# Altium schematic symbol library nfc.SchLib: 4 symbols
Pins are listed as number, name and electrical type; pins without a type are passive.

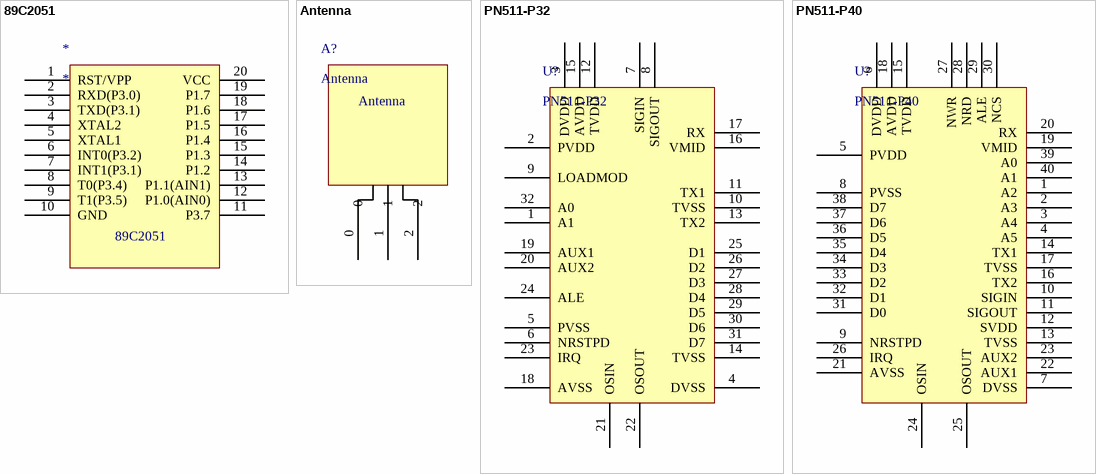
[diagram p0: symbols 89C2051 to PN511-P40]

## 89C2051
designator *
pins: 1 RST/VPP, 2 RXD(P3.0), 3 TXD(P3.1), 4 XTAL2, 5 XTAL1, 6 INT0(P3.2), 7 INT1(P3.1), 8 T0(P3.4), 9 T1(P3.5), 10 GND, 11 P3.7, 12 P1.0(AIN0), 13 P1.1(AIN1), 14 P1.2, 15 P1.3, 16 P1.4, 17 P1.5, 18 P1.6, 19 P1.7, 20 VCC

## Antenna
designator A?
pins: 0, 1, 2

## PN511-P32
designator U?
pins: 1 A1, 2 PVDD, 3 DVDD, 4 DVSS, 5 PVSS, 6 NRSTPD, 7 SIGIN, 8 SIGOUT, 9 LOADMOD, 10 TVSS, 11 TX1, 12 TVDD, 13 TX2, 14 TVSS, 15 AVDD, 16 VMID, 17 RX, 18 AVSS, 19 AUX1, 20 AUX2, 21 OSIN, 22 OSOUT, 23 IRQ, 24 ALE, 25 D1, 26 D2, 27 D3, 28 D4, 29 D5, 30 D6, 31 D7, 32 A0

## PN511-P40
designator U?
pins: 1 A2, 2 A3, 3 A4, 4 A5, 5 PVDD, 6 DVDD, 7 DVSS, 8 PVSS, 9 NRSTPD, 10 SIGIN, 11 SIGOUT, 12 SVDD, 13 TVSS, 14 TX1, 15 TVDD, 16 TX2, 17 TVSS, 18 AVDD, 19 VMID, 20 RX, 21 AVSS, 22 AUX1, 23 AUX2, 24 OSIN, 25 OSOUT, 26 IRQ, 27 NWR, 28 NRD, 29 ALE, 30 NCS, 31 D0, 32 D1, 33 D2, 34 D3, 35 D4, 36 D5, 37 D6, 38 D7, 39 A0, 40 A1